# Altium footprint library USB_MINER.PcbLib: 36 footprints (part 3 of 3)
Each footprint in its own frame and in the unit in brackets; x right, y up, seen from the top. Pads: shape width x height; smd on the part's side, far side on the other; paste and mask are expansions set on the pad; w line width, h text height; cw(c..) or ccw(c..) is an arc to the next point about the centre after c.
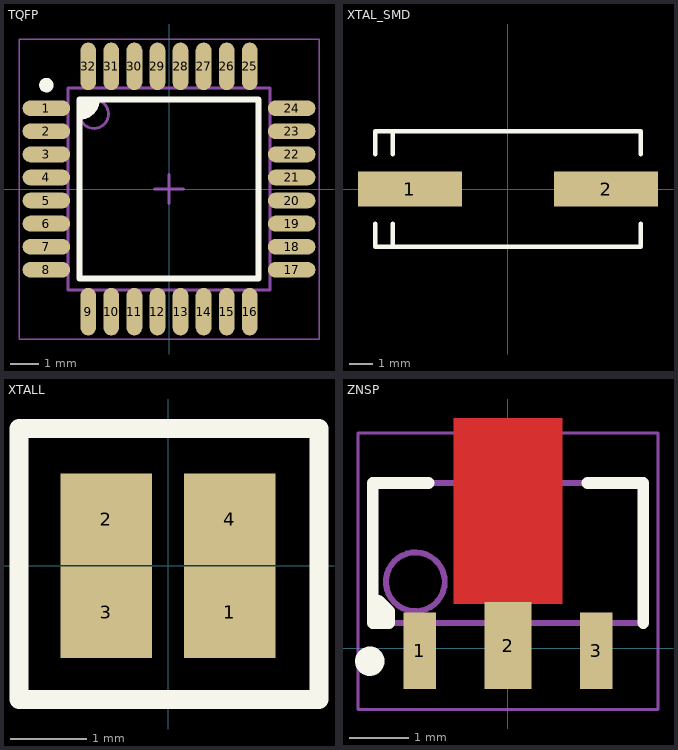
[diagram p2: the footprints below, top view; thin cyan lines are the x and y axes]

## TQFP [mm]
pads (32):
  oval 1.65x0.55 smd: 1(-4.25,2.8) 2(-4.25,2) 3(-4.25,1.2) 4(-4.25,0.4) 5(-4.25,-0.4) 6(-4.25,-1.2) 7(-4.25,-2) 8(-4.25,-2.8) 17(4.25,-2.8) 18(4.25,-2) 19(4.25,-1.2) 20(4.25,-0.4) 21(4.25,0.4) 22(4.25,1.2) 23(4.25,2) 24(4.25,2.8)
  oval 0.55x1.65 smd: 9(-2.8,-4.25) 10(-2,-4.25) 11(-1.2,-4.25) 12(-0.4,-4.25) 13(0.4,-4.25) 14(1.2,-4.25) 15(2,-4.25) 16(2.8,-4.25) 25(2.8,4.25) 26(2,4.25) 27(1.2,4.25) 28(0.4,4.25) 29(-0.4,4.25) 30(-1.2,4.25) 31(-2,4.25) 32(-2.8,4.25)
Top Overlay:
  circle w0.25: c-4.25,3.6 r0.125
  region: -3.1,3.1 -2.5,3.1 -2.5,2.9 -2.9,2.5 -3.1,2.5
  lines w0.2: -3.1,2.5 ccw(c-3.1,3.1) -2.5,3.1 ; -3.1,-3.1 3.1,-3.1 3.1,3.1 -3.1,3.1 -3.1,-3.1
Mechanical 13:
  circle w0.1: c-2.6,2.6 r0.5
  lines w0.1: -3.5,-3.5 3.5,-3.5 3.5,3.5 -3.5,3.5 -3.5,-3.5
Mechanical 15:
  lines w0.05: -5.2,-5.2 5.2,-5.2 5.2,5.2 -5.2,5.2 -5.2,-5.2
  lines w0.1: -0.5,0 0.5,0 ; 0,-0.5 0,0.5
3D body "LQFP-32-7x7.STEP": height 1.55, standoff 0, extent -4.51,-4.51 4.511,4.511

## XTAL_SMD [mm]
pads (2):
  rect 4.5x1.5 smd: 1(-4.25,0) 2(4.25,0)
Top Overlay:
  lines w0.2: -5.75,-1.5 -5.75,-2.5 5.75,-2.5 5.75,-1.5 ; -5.75,1.5 -5.75,2.5 5.75,2.5 5.75,1.5 ; -5,-2.5 -5,-1.5 ; -5,1.5 -5,2.5
3D body "User Library-HC49_SMD.STEP": height 5.18, standoff 0, extent -6.209,-2.25 6.091,2.25

## XTALL [mm]
pads (4):
  rect 1.2x1.2 smd: 1(0.813,-0.612) 2(-0.813,0.613) 3(-0.813,-0.612) 4(0.813,0.613)
Top Overlay:
  lines w0.254: -1.956,-1.755 1.981,-1.755 1.981,1.801 -1.956,1.801 -1.956,-1.755
3D body "ABM8.stp": height 0.87, standoff 0.07, extent -1.595,-1.27 1.605,1.23

## ZNSP [mm]
pads (3):
  rect 0.55x1.3 smd: 1(-1.5,-0.044) 3(1.5,-0.044)
  rect 0.8x1.475 smd: 2(0,0.044)
Top Layer:
  region: -0.925,0.756 -0.925,3.906 0.925,3.906 0.925,0.756
Top Overlay:
  circle w0.25: c-2.35,-0.221 r0.125
  region: -2.3,0.429 -2.022,0.429 -2.022,0.629 -2.2,0.806
  lines w0.2: -2.2,0.806 -2.022,0.629 -2.022,0.429 -2.3,0.429 -2.3,2.806 -1.35,2.806 ; 1.35,2.806 2.3,2.806 2.3,0.429
Mechanical 13:
  circle w0.1: c-1.575,1.129 r0.5
  lines w0.1: -2.3,0.429 2.3,0.429 2.3,2.806 -2.3,2.806 -2.3,0.429
Mechanical 15:
  lines w0.05: -2.55,-1.044 2.55,-1.044 2.55,3.656 -2.55,3.656 -2.55,-1.044
  lines w0.1: -0.5,1.729 0.5,1.729 ; 0,1.229 0,2.229
3D body "SOT-89.STEP": height 1.5, standoff 0, extent -2.25,-0.469 2.25,3.681